# Altium schematic symbol library jlcpcb_LED_basic.schlib: 1 symbol
Pins are listed as number, name and electrical type; pins without a type are passive.

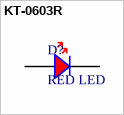
[diagram p0: symbol KT-0603R]

## KT-0603R
designator D?, comment RED LED
RED LED 0603; Manufacturer Part Number: KT-0603R; JLCPCB Part Number: C2286
footprint LED0603
pins: 1 K, 2 A